# EAGLE library part SC56* (library radu-collected)
Kingbright SC56 single-digit 7-segment common cathode LED displays
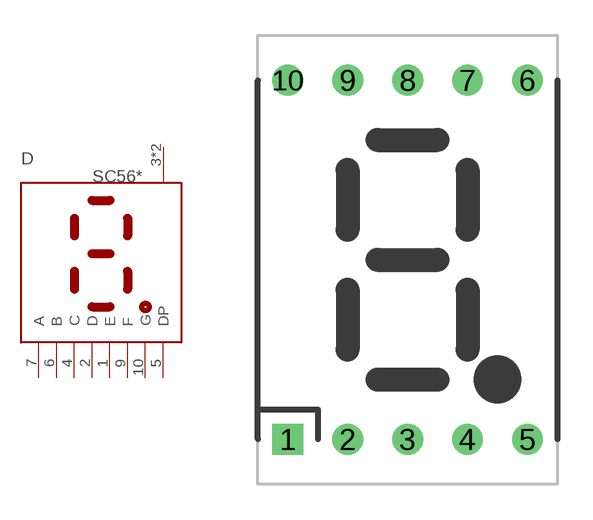
[diagram p1: symbol with the pads of DIP10_KINGBRIGHT_SX56; footprint DIP10_KINGBRIGHT_SX56]

Designator prefix D

## SC5611CGKWA, SC5611EWA, SC5611GWA, SC5611SEKWA, SC5611SRWA, SC5611SURWA, SC5611SYKWA, SC5611YWA, SC5621CGKWA, SC5621EWA, SC5621GWA, SC5621SEKWA, SC5621SRWA, SC5621SURWA, SC5621SYKWA, SC5621YWA, SC5651QBWA, SC5651ZGWA  [DIP10_KINGBRIGHT_SX56]
1  E  in
2  D  in
3  COM  pwr
4  C  in
5  DP  in
6  B  in
7  A  in
8  COM  pwr
9  F  in
10  G  in

## Footprint DIP10_KINGBRIGHT_SX56 (pad centres in mm)
Dual-In-Line 10 pin, through hole package, for Kingbright S[AC]56 This is a package footprint for Kingbright S[AC]56 single-digit 7-segment LED displays
drill 0.8 square: 1 -5.08,-7.62
drill 0.8: 2 -2.54,-7.62; 3 0,-7.62; 4 2.54,-7.62; 5 5.08,-7.62; 6 5.08,7.62; 7 2.54,7.62; 8 0,7.62; 9 -2.54,7.62; 10 -5.08,7.62